# EAGLE library part AS-ITM-00330 (library tinycircuits)
MCU AVR ATtiny Microcontroller IC 8-Bit 20MHz 2KB (1K x 16) FLASH 8-SOIC
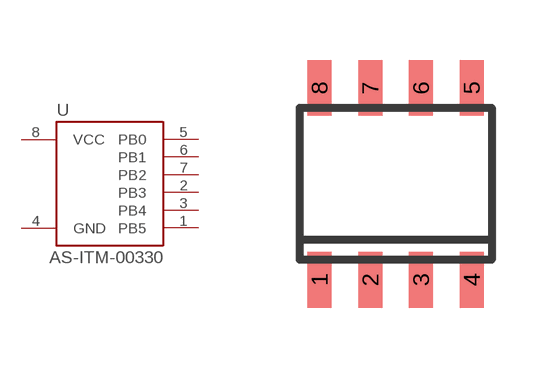
[diagram p128: symbol with the pads of SO-08-COMPACT; footprint SO-08-COMPACT]

Designator prefix U

## AS-ITM-00330 (PARTNO: AS-ITM-00330; VALUE: ATTINY25)  [SO-08-COMPACT]
1  PB5
2  PB3
3  PB4
4  GND
5  PB0
6  PB1
7  PB2
8  VCC

## Footprint SO-08-COMPACT (pad centres in mm)
smd 0.6 x 1.4: 1 -1.905,-2.4; 2 -0.635,-2.4; 3 0.635,-2.4; 4 1.905,-2.4; 5 1.905,2.4; 6 0.635,2.4; 7 -0.635,2.4; 8 -1.905,2.4